# EAGLE library part PSTA-11 (library con-phoenix-350)
PSTA 1,5/XX-3,5 3.5 MM Terminal Block
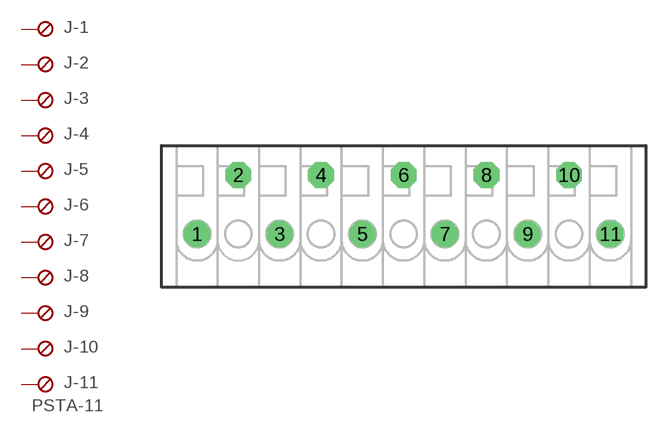
[diagram p0: symbol with the pads of PSTA-11; footprint PSTA-11]

Designator prefix J; gates -1=SKB -2=SKB -3=SKB -4=SKB -5=SKB -6=SKB -7=SKB -8=SKB -9=SKB -10=SKB -11=SKBU+V

## PSTA-11  [PSTA-11]
1  -1:S  pas
2  -2:S  pas
3  -3:S  pas
4  -4:S  pas
5  -5:S  pas
6  -6:S  pas
7  -7:S  pas
8  -8:S  pas
9  -9:S  pas
10  -10:S  pas
11  -11:S  pas

## Footprint PSTA-11 (pad centres in mm)
PTSA 1,5/11-3,5-Z 3.5mm
drill 1.016 pad 2.184 octagon: 1 -17.5,0; 2 -14,5; 3 -10.5,0; 4 -7,5; 5 -3.5,0; 6 0,5; 7 3.5,0; 8 7,5; 9 10.5,0; 10 14,5; 11 17.5,0